# EAGLE library part AD526 (library LMV358)
Monolithic Software Programmable Gain Amplifier Source: http://www.dscc.dla.mil/Downloads/MilSpec/Smd/90894.pdf
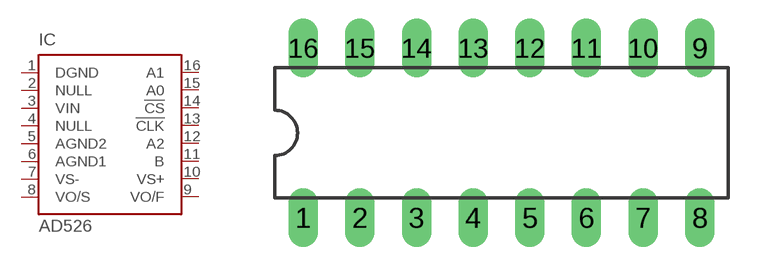
[diagram p84: symbol with the pads of DIL16; footprint DIL16]

Designator prefix IC

## AD526 (MF: ALTERA CORPORATION; MPN: AD526AD; OC_FARNELL: 402140; OC_NEWARK: 05F6913)  [DIL16]
1  DGND  in
2  NULL  in
3  VIN  in
4  NULL  in
5  AGND2  in
6  AGND1  in
7  VS-  in
8  VO/S  in
9  VO/F  in
10  VS+  in
11  B  in
12  A2  in
13  !CLK  in
14  !CS  in
15  A0  in
16  A1  in

## Footprint DIL16 (pad centres in mm)
Dual In Line Package
drill 0.813 long: 1 -8.89,-3.81; 2 -6.35,-3.81; 3 -3.81,-3.81; 4 -1.27,-3.81; 5 1.27,-3.81; 6 3.81,-3.81; 7 6.35,-3.81; 8 8.89,-3.81; 9 8.89,3.81; 10 6.35,3.81; 11 3.81,3.81; 12 1.27,3.81; 13 -1.27,3.81; 14 -3.81,3.81; 15 -6.35,3.81; 16 -8.89,3.81